# Altium schematic symbol library BisnessCard.SchLib: 2 symbols
Pins are listed as number, name and electrical type; pins without a type are passive.

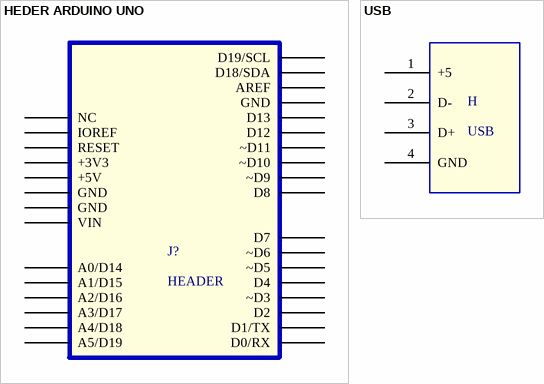
[diagram p0: symbols HEDER ARDUINO UNO to USB]

## HEDER ARDUINO UNO
designator J?, comment HEADER
footprint Conector Arduino UNO
pins: 1 ~D3, 2 D4, 3 GND, 4 IOREF, 4 +5V, 5 GND, 6 +3V3, 9 ~D5, 10 ~D6, 11 D7, 12 D8, 13 ~D9, 14 ~D10, 15 ~D11, 16 D12, 17 D13, 20 AREF, 21 GND, 23 A0/D14, 24 A1/D15, 25 A2/D16, 26 A3/D17, 27 A4/D18, 27 D18/SDA, 28 A5/D19, 28 D19/SCL, 29 RESET, 30 D0/RX, 31 D1/TX, 32 D2, 33 VIN, ?1 NC

## USB
designator H
footprint USB_FLAT
pins: 1 +5, 2 D-, 3 D+, 4 GND